# EAGLE library part ESPRUINO_PICO_0.1 (library espruino_pico)
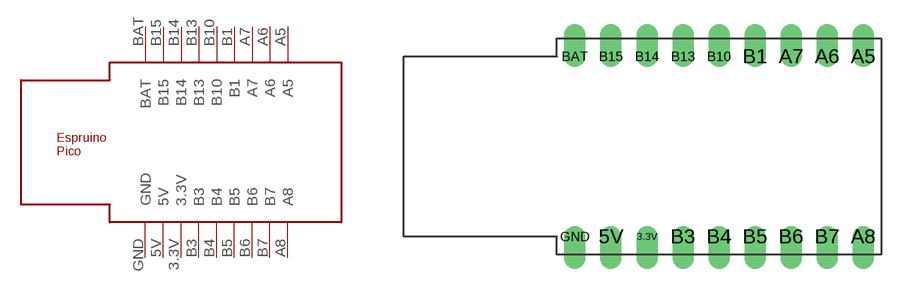
[diagram p7: symbol with the pads of ESPRUINO_PICO_0.1; footprint ESPRUINO_PICO_0.1]

Designator prefix -

## ESPRUINO_PICO_0.1  [ESPRUINO_PICO_0.1]
3.3V  3.3V
5V  5V
A5  A5
A6  A6
A7  A7
A8  A8
B1  B1
B3  B3
B4  B4
B5  B5
B6  B6
B7  B7
B10  B10
B13  B13
B14  B14
B15  B15
BAT  BAT
GND  GND

## Footprint ESPRUINO_PICO_0.1 (pad centres in mm)
drill 1.016 offset: 3.3V -7.62,-6.35; 5V -10.16,-6.35; A5 7.62,6.35; A6 5.08,6.35; A7 2.54,6.35; A8 7.62,-6.35; B1 0,6.35; B3 -5.08,-6.35; B4 -2.54,-6.35; B5 0,-6.35; B6 2.54,-6.35; B7 5.08,-6.35; B10 -2.54,6.35; B13 -5.08,6.35; B14 -7.62,6.35; B15 -10.16,6.35; BAT -12.7,6.35; GND -12.7,-6.35